# EAGLE library part AS6200 (library SENSOR)
IC SENSOR TEMP SMD ±1°C (-40°C to 125°C) Datasheet <http://ams.com/eng/content/download/900532/2174147/403735>
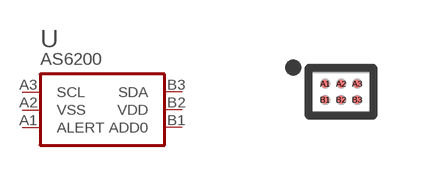
[diagram p6: symbol with the pads of WLCSP-6; footprint WLCSP-6]

Designator prefix U

## AS6200  [WLCSP-6]
A1  ALERT  out
A2  VSS  pwr
A3  SCL  in
B1  ADD0  in
B2  VDD  pwr
B3  SDA

## Footprint WLCSP-6 (pad centres in mm)
WLCSP-6, BGA, 6-Leads, Body 1.49x1.00mmx1.00mm, Pitch 0.40mm Designed for AS6200
smd 0.2 x 0.2: A1 -0.4,0.2; A2 0,0.2; A3 0.4,0.2; B1 -0.4,-0.2; B2 0,-0.2; B3 0.4,-0.2